# Altium footprint library 1217861-1.PcbLib: 1 footprints
Each footprint in its own frame and in the unit in brackets; x right, y up, seen from the top. Pads: shape width x height; smd on the part's side, far side on the other; paste and mask are expansions set on the pad; w line width, h text height; cw(c..) or ccw(c..) is an arc to the next point about the centre after c.
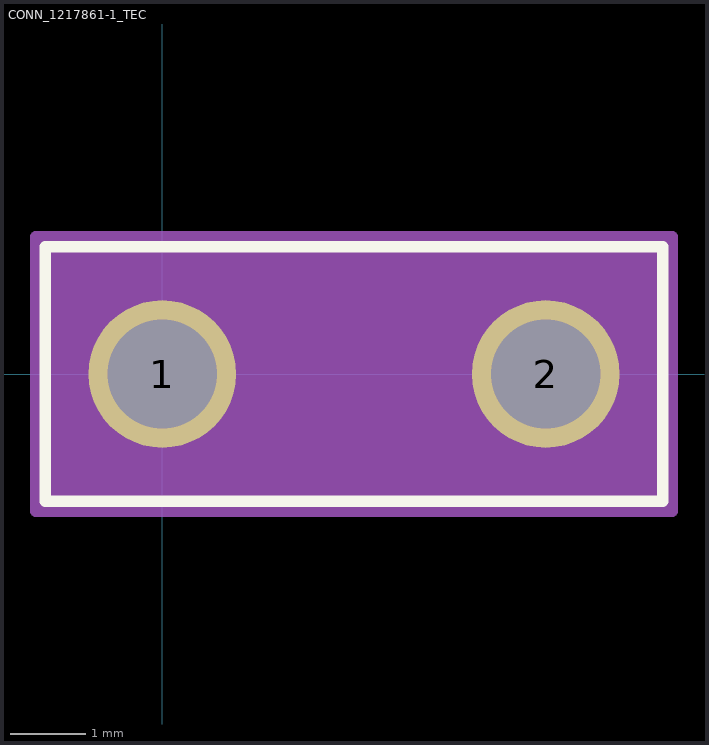
[diagram p0: the footprint, top view; thin cyan lines are the x and y axes]

## CONN_1217861-1_TEC [mil]
pads (2):
  round 77 / inner oval 77x60 / far side round 77 hole 57 paste-99999 mask+0: 1(0,0) 2(200,0)
Top Overlay:
  lines w6: -61,-66.5 -61,66.5 261,66.5 261,-66.5 -61,-66.5
Mechanical 13:
  lines w1: -56,-61.5 -56,61.5 256,61.5 256,-61.5 -56,-61.5
Mechanical 15:
  region: 266,71.5 -66,71.5 -66,-71.5 266,-71.5
  lines w6: -66,-71.5 266,-71.5 266,71.5 -66,71.5 -66,-71.5
3D body "c-1217861-1-h-3d.stp": height 415, standoff -137, extent -56,-60.75 256,60.75